# EAGLE library part DIP-8 (library lab_6)
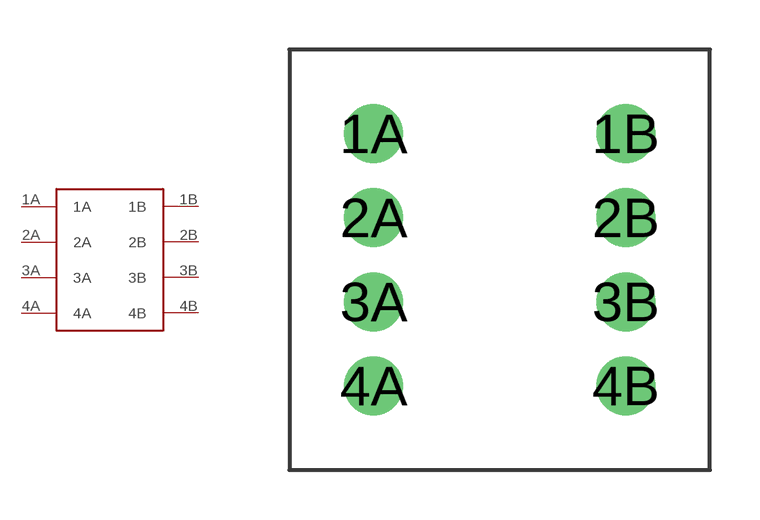
[diagram p0: symbol with the pads of DIP-8; footprint DIP-8]

Designator prefix -

## DIP-8  [DIP-8]
1A  1A
1B  1B
2A  2A
2B  2B
3A  3A
3B  3B
4A  4A
4B  4B

## Footprint DIP-8 (pad centres in mm)
drill 1.016 pad 1.778: 1A -3.81,3.81; 1B 3.81,3.81; 2A -3.81,1.27; 2B 3.81,1.27; 3A -3.81,-1.27; 3B 3.81,-1.27; 4A -3.81,-3.81; 4B 3.81,-3.81